# Altium footprint library test_lib.PcbLib: 32 footprints (part 3 of 3)
Each footprint in its own frame and in the unit in brackets; x right, y up, seen from the top. Pads: shape width x height; smd on the part's side, far side on the other; paste and mask are expansions set on the pad; w line width, h text height; cw(c..) or ccw(c..) is an arc to the next point about the centre after c.
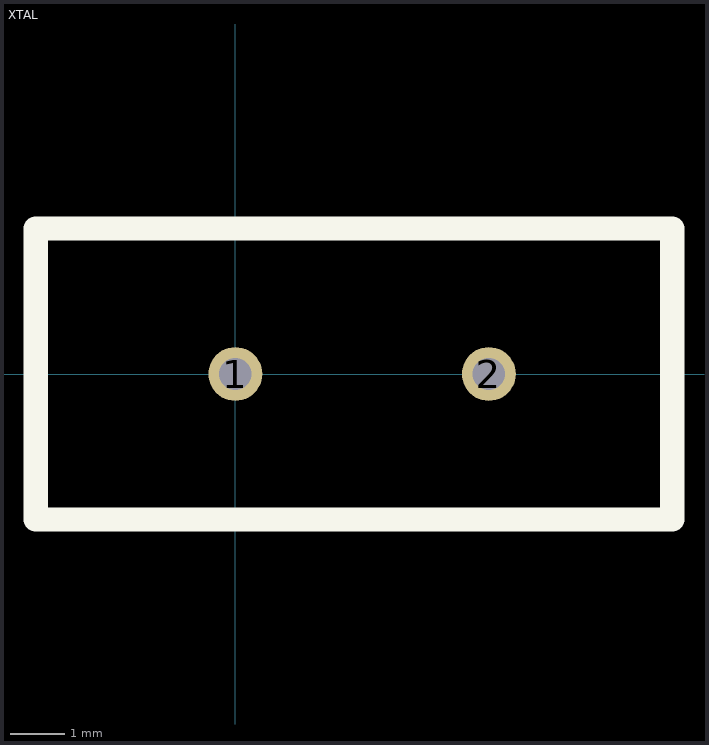
[diagram p2: the footprint, top view; thin cyan lines are the x and y axes]

## XTAL [mm]
pads (2):
  round 1 hole 0.6: 1(0,0) 2(4.7,0)
Top Overlay:
  lines w0.45: -3.7,-2.7 8.1,-2.7 8.1,2.7 4.8,2.7 0.2,2.7 -3.7,2.7 -3.7,-0.2 -3.7,-2.7
3D body "User Library-HC49S.STEP": height 3.63, standoff -1.97, extent -3.411,-2.325 7.761,2.348